# EAGLE library part L6205PD (library _hhn_L6205)
L6205PD DMOS DUAL FULL BRIDGE DRIVER Case: PowerSO20 Author: Dipl.-Ing. FH Rainer Bayer, rainer.bayer@hs-heilbronn.de, www.ing-rb.de/hhn Notes: 1. Slug: see data sheet (PowerSO20 outline and mechanical data) 2. ENA, ENB pin direction "I/O": see data sheet (ENA and ENB pins open collector driving vs. push-pull driving) 3. SENSEA, SENSEB pin direction "PWR": see data sheet (power ground)
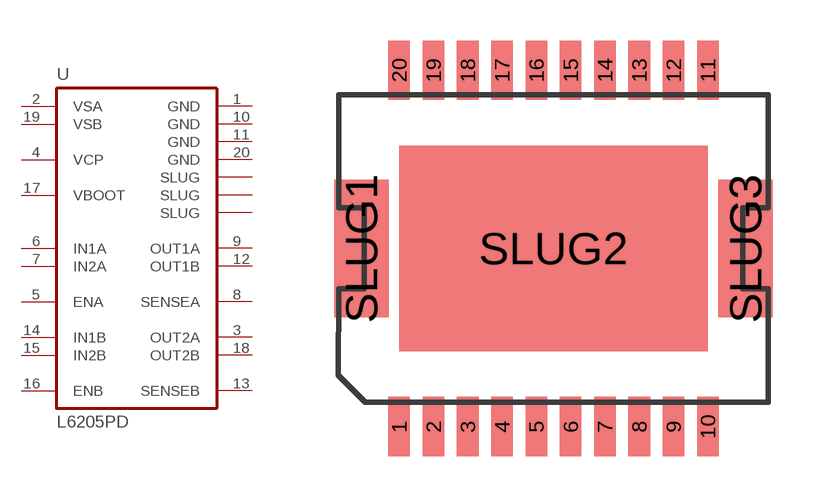
[diagram p1: symbol with the pads of SO20POWER; footprint SO20POWER]

Designator prefix U

## L6205PD  [SO20POWER]
1  GND  pwr
2  VSA  pwr
3  OUT2A  out
4  VCP  pas
5  ENA
6  IN1A  in
7  IN2A  in
8  SENSEA  pwr
9  OUT1A  out
10  GND  pwr
11  GND  pwr
12  OUT1B  out
13  SENSEB  pwr
14  IN1B  in
15  IN2B  in
16  ENB
17  VBOOT  pas
18  OUT2B  out
19  VSB  pwr
20  GND  pwr
SLUG1  SLUG  pwr
SLUG2  SLUG  pwr
SLUG3  SLUG  pwr

## Footprint SO20POWER (pad centres in mm)
PowerSO20
smd 0.8 x 2.2: 1 -5.715,-6.6; 2 -4.445,-6.6; 3 -3.175,-6.6; 4 -1.905,-6.6; 5 -0.635,-6.6; 6 0.635,-6.6; 7 1.905,-6.6; 8 3.175,-6.6; 9 4.445,-6.6; 10 5.715,-6.6; 11 5.715,6.6; 12 4.445,6.6; 13 3.175,6.6; 14 1.905,6.6; 15 0.635,6.6; 16 -0.635,6.6; 17 -1.905,6.6; 18 -3.175,6.6; 19 -4.445,6.6; 20 -5.715,6.6
smd 2.032 x 5.08: SLUG1 -7.112,0; SLUG3 7.112,0
smd 11.43 x 7.62: SLUG2 0,0